# Altium footprint library PowerPak_1212-8_single.PcbLib: 1 footprints
Each footprint in its own frame and in the unit in brackets; x right, y up, seen from the top. Pads: shape width x height; smd on the part's side, far side on the other; paste and mask are expansions set on the pad; w line width, h text height; cw(c..) or ccw(c..) is an arc to the next point about the centre after c.
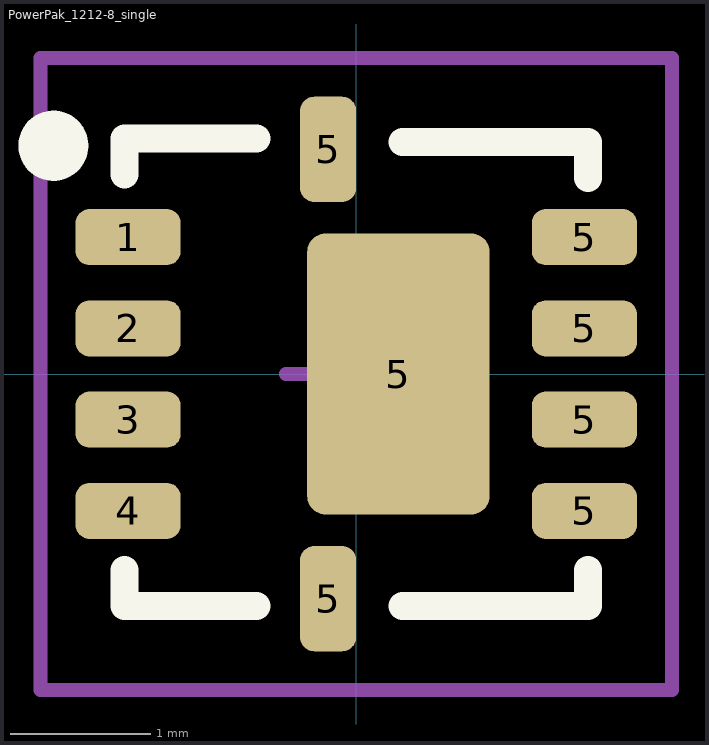
[diagram p0: the footprint, top view; thin cyan lines are the x and y axes]

## PowerPak_1212-8_single [mm]
pads (11):
  rrect50% 0.75x0.4 smd: 1(-1.625,0.975) 2(-1.625,0.325) 3(-1.625,-0.325) 4(-1.625,-0.975) 5(1.625,-0.975) 5(1.625,-0.325) 5(1.625,0.325) 5(1.625,0.975)
  rrect50% 0.4x0.75 smd: 5(-0.2,-1.6) 5(-0.2,1.6)
  rrect20% 1.3x2 smd: 5(0.3,0)
Top Overlay:
  circle w0.25: c-2.157,1.626 r0.125
  lines w0.2: -1.651,-1.397 -1.651,-1.651 -0.711,-1.651 ; -1.651,1.422 -1.651,1.676 -0.711,1.676 ; 0.33,-1.651 1.651,-1.651 1.651,-1.397 ; 0.33,1.651 1.651,1.651 1.651,1.397
Mechanical 15:
  lines w0.1: -0.5,0 0.5,0 ; 0,-0.5 0,0.5 ; -2.25,-2.25 -2.25,2.25 2.25,2.25 2.25,-2.25 -2.25,-2.25
3D body "User Library-SI7913DN-T1-GE3.STEP": height 1.12, standoff 0, extent -1.655,-1.649 1.655,1.651